# Altium schematic symbol library CD-PA1616D.SchLib: 1 symbol
Pins are listed as number, name and electrical type; pins without a type are passive.

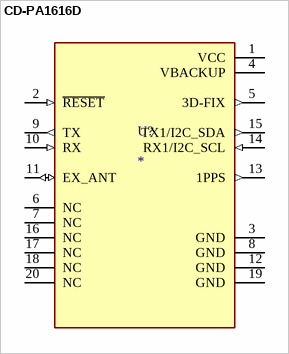
[diagram p0: symbol CD-PA1616D]

## CD-PA1616D
designator U?
CD-PA1616DGNSS patch antenna module; MF: CD Top; Package: Package; Price: None; Value: *; Check_prices: https://www.snapeda.com/parts/CD-PA1616D/CD+Top/view-part/?ref=eda; SnapEDA_Link: https://www.snapeda.com/parts/CD-PA1616D/CD+Top/view-part/?ref=snap; MP: CD-PA1616D; Availability: Not in stock
footprint XCVR_CD-PA1616D
pins: 1 VCC (power), 2 ~{RESET} (in), 3 GND (power), 4 VBACKUP (power), 5 3D-FIX (out), 6 NC, 7 NC, 8 GND (power), 9 TX (out), 10 RX (in), 11 EX_ANT (io), 12 GND (power), 13 1PPS (out), 14 RX1/I2C_SCL (in), 15 TX1/I2C_SDA (out), 16 NC, 17 NC, 18 NC, 19 GND (power), 20 NC